# Altium schematic symbol library qiwirelesstransmitterschlib.SchLib: 30 symbols (part 1 of 2)
Pins are listed as number, name and electrical type; pins without a type are passive.

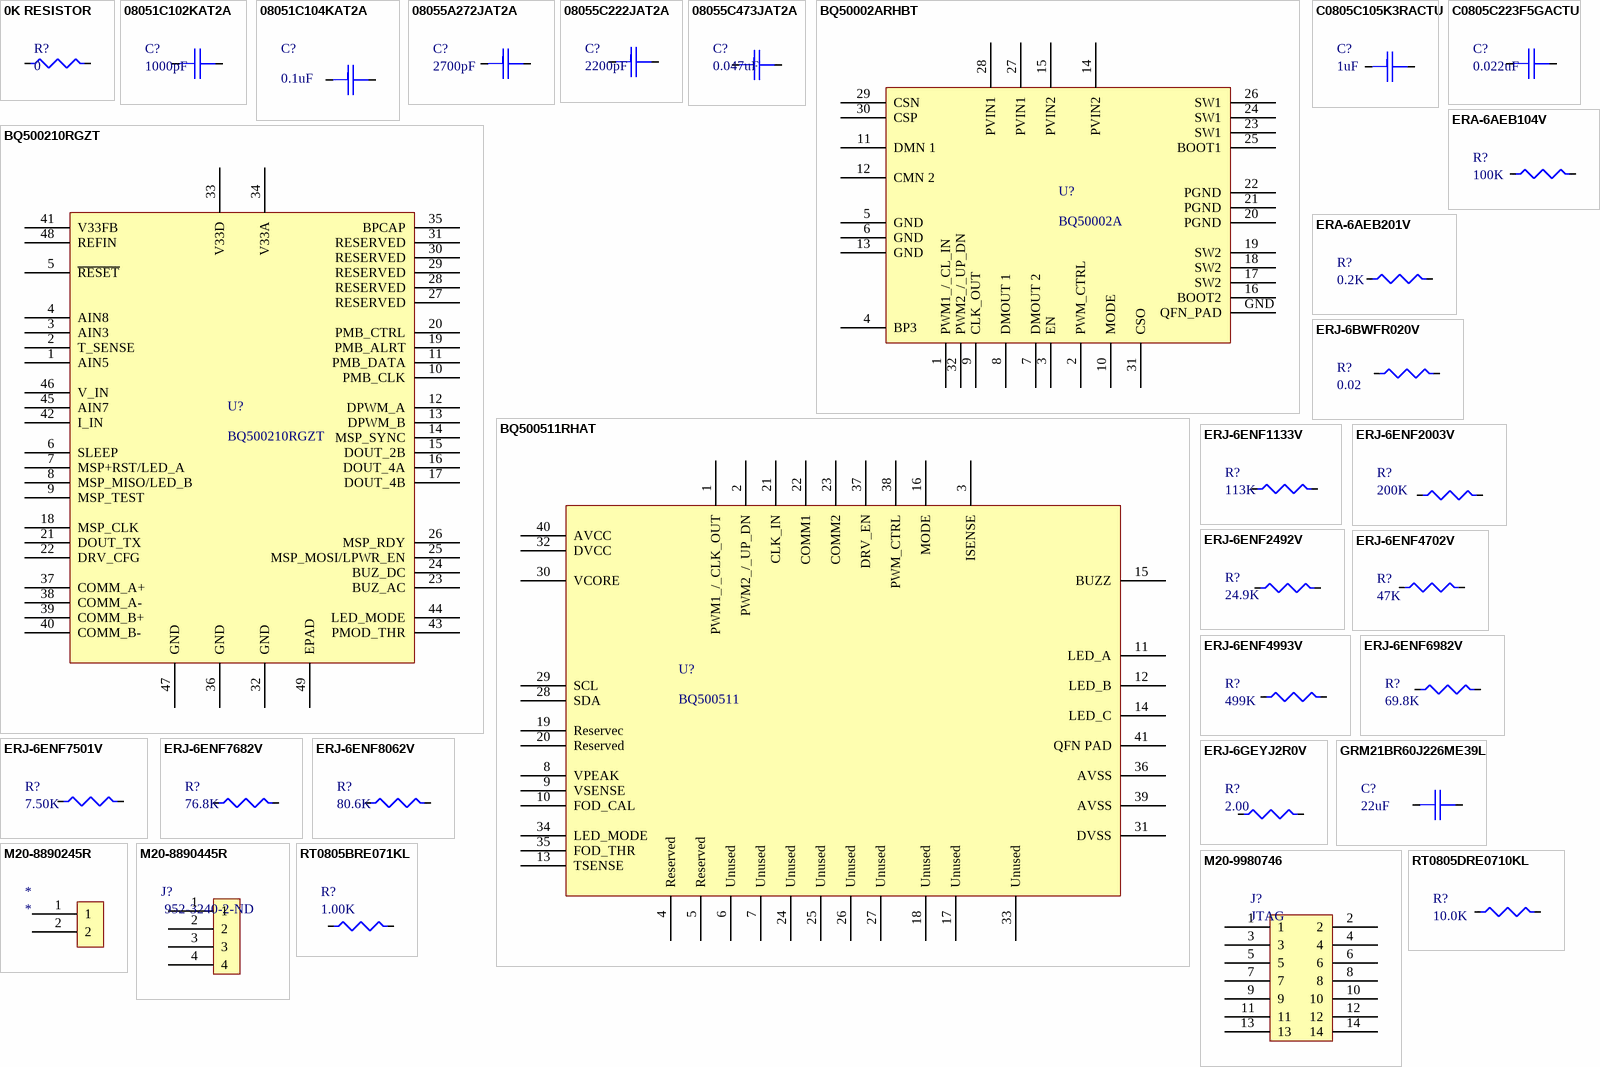
[diagram p0: symbols 0K RESISTOR to RT0805DRE0710KL]

## 0K RESISTOR
designator R?, comment 0
0K OHM resistor
footprint R0805 0.5H
pins: 84, 85

## 08051C102KAT2A
designator C?, comment 1000pF
CAP CER 1000PF 100V X7R 0805; Manufacturer: Kyocera AVX; Manufacturer Part Number: 08051C102KAT2A; Capacitance: 1nF; Tolerance: 10%; Dissipation Factor: 2.5%; Supplier 1: Mouser; RoHS: Yes; Category: Ceramic Capacitors; Stock 1: 83991; Pricing 1: 1=0.15000, 10=0.10600, 100=0.05200, 500=0.03700, 1000=0.03000, 2000=0.02800 (USD); Mount: Surface Mount; Case/Package: 0805; Number of Pins: 2; Case Code (Metric): 2012; Case Code (Imperial): 0805; Contact Plating: Tin,Matte; Min Operating Temperature: -55°C; Max Operating Temperature: 125°C; Packaging: Tape and Reel; Voltage Rating: 100V; Package Quantity: 1; Voltage Rating (DC): 100V; Dielectric: X7R; Termination: SMD/SMT; Voltage: 100V; Length: 2.01mm; Height: 0.94mm; Width: 0.049inch; Thickness: 0.037inch; Depth: 1.25mm; Radiation Hardening: No; REACH SVHC: No SVHC; Lead Free: Lead Free; ComponentLink1URL: https://datasheet.ciiva.com/11786/0900766b80ed4be2-11786533.pdf?src-supplier=RSComponents; ComponentLink1Description: https://datasheet.ciiva.com/11786/0900766b80ed4be2-11786533.pdf?src-supplier=RSComponents; ComponentLink2URL: https://datasheet.ciiva.com/22683/1679506-22683368.pdf?src-supplier=Element14; ComponentLink2Description: https://datasheet.ciiva.com/22683/1679506-22683368.pdf?src-supplier=Element14; ComponentLink3URL: https://datasheet.ciiva.com/2987/cx7r-2987930.pdf?src-supplier=Avnet; ComponentLink3Description: https://datasheet.ciiva.com/2987/cx7r-2987930.pdf?src-supplier=Avnet; ComponentLink4URL: https://datasheet.ciiva.com/7811/cx7r-7811914.pdf?src-supplier=Element14; ComponentLink4Description: https://datasheet.ciiva.com/7811/cx7r-7811914.pdf?src-supplier=Element14; ComponentLink5URL: https://datasheet.ciiva.com/150/cx7r-150587.pdf?src-supplier=Digi-Key; ComponentLink5Description: https://datasheet.ciiva.com/150/cx7r-150587.pdf?src-supplier=Digi-Key; ComponentLink6URL: https://datasheet.ciiva.com/150/cx7r-150588.pdf?src-supplier=Digi-Key; ComponentLink6Description: https://datasheet.ciiva.com/150/cx7r-150588.pdf?src-supplier=Digi-Key; ComponentLink7URL: https://datasheet.ciiva.com/22699/1679506-22699612.pdf?src-supplier=Element14; ComponentLink7Description: https://datasheet.ciiva.com/22699/1679506-22699612.pdf?src-supplier=Element14; ComponentLink8URL: https://datasheet.ciiva.com/150/cx7r-150589.pdf?src-supplier=Digi-Key; ComponentLink8Description: https://datasheet.ciiva.com/150/cx7r-150589.pdf?src-supplier=Digi-Key; ComponentLink9URL: https://datasheet.ciiva.com/5420/cx7r-218113-5420893.pdf?src-supplier=Mouser; ComponentLink9Description: https://datasheet.ciiva.com/5420/cx7r-218113-5420893.pdf?src-supplier=Mouser; Supplier Part Number 1: 581-08051C102K
footprint C0805 0.94H
pins: 1, 2

## 08051C104KAT2A
designator C?, comment 0.1uF
CAP CER 0.1UF 100V X7R 0805; Manufacturer: Kyocera AVX; Manufacturer Part Number: 08051C104KAT2A; Dielectric Material: Ceramic; Capacitance: 100nF; Tolerance: 10%; Supplier 1: Mouser; RoHS: Yes; Category: Ceramic Capacitors; Stock 1: 110261; Pricing 1: 1=0.31000, 10=0.21900, 100=0.13500, 500=0.10400, 1000=0.08900, 3000=0.07500 (USD); Mount: Surface Mount,PCB; Case/Package: 0805; Number of Pins: 2; Case Code (Metric): 2012; Case Code (Imperial): 0805; Contact Plating: Tin,Matte; Min Operating Temperature: -55°C; Max Operating Temperature: 125°C; Voltage Rating: 100V; Packaging: Tape and Reel; Package Quantity: 2000; Dielectric: X7R; Voltage Rating (DC): 100V; Voltage: 100V; Termination: SMD/SMT; Length: 2.01mm; Height: 1.4mm; Width: 0.049inch; Depth: 1.25mm; Thickness: 0.055inch; Radiation Hardening: No; REACH SVHC: No SVHC; Lead Free: Lead Free; ComponentLink1URL: https://datasheet.ciiva.com/14591/70001075-14591803.pdf?src-supplier=Allied+Electronics; ComponentLink1Description: https://datasheet.ciiva.com/14591/70001075-14591803.pdf?src-supplier=Allied+Electronics; ComponentLink2URL: https://datasheet.ciiva.com/2987/cx7r-2987937.pdf?src-supplier=Avnet; ComponentLink2Description: https://datasheet.ciiva.com/2987/cx7r-2987937.pdf?src-supplier=Avnet; ComponentLink3URL: https://datasheet.ciiva.com/152/cx7r-152598.pdf?src-supplier=Digi-Key; ComponentLink3Description: https://datasheet.ciiva.com/152/cx7r-152598.pdf?src-supplier=Digi-Key; ComponentLink4URL: https://datasheet.ciiva.com/11462/cx7r-11462918.pdf?src-supplier=Avnet; ComponentLink4Description: https://datasheet.ciiva.com/11462/cx7r-11462918.pdf?src-supplier=Avnet; ComponentLink5URL: https://datasheet.ciiva.com/152/cx7r-152599.pdf?src-supplier=Digi-Key; ComponentLink5Description: https://datasheet.ciiva.com/152/cx7r-152599.pdf?src-supplier=Digi-Key; ComponentLink6URL: https://datasheet.ciiva.com/152/cx7r-152600.pdf?src-supplier=Digi-Key; ComponentLink6Description: https://datasheet.ciiva.com/152/cx7r-152600.pdf?src-supplier=Digi-Key; ComponentLink7URL: https://datasheet.ciiva.com/5414/cx7r-5414106.pdf?src-supplier=Mouser; ComponentLink7Description: https://datasheet.ciiva.com/5414/cx7r-5414106.pdf?src-supplier=Mouser; ComponentLink8URL: https://datasheet.ciiva.com/7811/cx7r-7811919.pdf?src-supplier=Element14; ComponentLink8Description: https://datasheet.ciiva.com/7811/cx7r-7811919.pdf?src-supplier=Element14; Supplier Part Number 1: 581-08051C104KAT2A
footprint 0.1uF
pins: 1, 2

## 08055A272JAT2A
designator C?, comment 2700pF
CAP CER 2700PF 50V C0G/NP0 0805; Manufacturer: Kyocera AVX; Manufacturer Part Number: 08055A272JAT2A; Capacitance: 2.7nF; Tolerance: 5%; Dielectric: C0G; Supplier 1: Mouser; RoHS: Yes; Category: Ceramic Capacitors; Stock 1: 4651; Pricing 1: 1=0.32000, 10=0.21700, 100=0.12300, 500=0.08600, 1000=0.07600, 3000=0.06200 (USD); Mount: Surface Mount; Case/Package: 0805; Number of Pins: 2; Case Code (Imperial): 0805; Case Code (Metric): 2012; Min Operating Temperature: -55°C; Max Operating Temperature: 125°C; Voltage Rating: 50V; Packaging: Tape and Reel; Package Quantity: 1; Voltage Rating (DC): 50V; Termination: SMD/SMT; Length: 2.01mm; Height: 0.94mm; Width: 1.25mm; Thickness: 0.055inch; Depth: 1.25mm; Radiation Hardening: No; REACH SVHC: No SVHC; Lead Free: Lead Free; ComponentLink1URL: https://datasheet.ciiva.com/19476/1035660-19476312.pdf?src-supplier=Jameco; ComponentLink1Description: https://datasheet.ciiva.com/19476/1035660-19476312.pdf?src-supplier=Jameco; ComponentLink2URL: https://datasheet.ciiva.com/5419/ccog-243403-5419957.pdf?src-supplier=Mouser; ComponentLink2Description: https://datasheet.ciiva.com/5419/ccog-243403-5419957.pdf?src-supplier=Mouser; ComponentLink3URL: https://datasheet.ciiva.com/17496/ccog-17496421.pdf?src-supplier=Avnet+Europe; ComponentLink3Description: https://datasheet.ciiva.com/17496/ccog-17496421.pdf?src-supplier=Avnet+Europe; ComponentLink4URL: https://datasheet.ciiva.com/152/ccog-152790.pdf?src-supplier=Digi-Key; ComponentLink4Description: https://datasheet.ciiva.com/152/ccog-152790.pdf?src-supplier=Digi-Key; ComponentLink5URL: https://datasheet.ciiva.com/28533/1796416-28533510.pdf?src-supplier=Element14; ComponentLink5Description: https://datasheet.ciiva.com/28533/1796416-28533510.pdf?src-supplier=Element14; ComponentLink6URL: https://datasheet.ciiva.com/152/ccog-152791.pdf?src-supplier=Digi-Key; ComponentLink6Description: https://datasheet.ciiva.com/152/ccog-152791.pdf?src-supplier=Digi-Key; ComponentLink7URL: https://datasheet.ciiva.com/152/ccog-152792.pdf?src-supplier=Digi-Key; ComponentLink7Description: https://datasheet.ciiva.com/152/ccog-152792.pdf?src-supplier=Digi-Key; ComponentLink8URL: https://datasheet.ciiva.com/2987/ccog-2987993.pdf?src-supplier=Avnet; ComponentLink8Description: https://datasheet.ciiva.com/2987/ccog-2987993.pdf?src-supplier=Avnet; ComponentLink9URL: https://datasheet.ciiva.com/7812/84496-7812345.pdf?src-supplier=Element14; ComponentLink9Description: https://datasheet.ciiva.com/7812/84496-7812345.pdf?src-supplier=Element14; ComponentLink10URL: https://datasheet.ciiva.com/2987/ccog-2987994.pdf?src-supplier=Avnet; ComponentLink10Description: https://datasheet.ciiva.com/2987/ccog-2987994.pdf?src-supplier=Avnet; ComponentLink11URL: https://datasheet.ciiva.com/22676/1796416-22676987.pdf?src-supplier=Element14; ComponentLink11Description: https://datasheet.ciiva.com/22676/1796416-22676987.pdf?src-supplier=Element14; Supplier Part Number 1: 581-08055A272JAT2A
footprint C0805 1.4H
pins: 1, 2

## 08055C222JAT2A
designator C?, comment 2200pF
0805 2.2 nF 50 V ±5 % Tolerance X7R Surface Mount Multilayer Ceramic Capacitor; Manufacturer: Kyocera AVX; Manufacturer Part Number: 08055C222JAT2A; Capacitance: 2.2nF; Tolerance: 5%; Voltage Rating (DC): 50V; Supplier 1: Mouser; RoHS: Yes; Category: Ceramic Capacitors; Stock 1: 4192; Pricing 1: 1=0.19000, 10=0.13000, 100=0.06500, 500=0.04500, 1000=0.04100, 2000=0.04100 (USD); Mount: Surface Mount,Through Hole; Case/Package: 0805; Number of Pins: 2; Case Code (Metric): 2012; Case Code (Imperial): 0805; Contact Plating: Tin,Matte; Min Operating Temperature: -55°C; Max Operating Temperature: 125°C; Packaging: Tape and Reel; Dielectric: X7R; Voltage Rating: 50V; Package Quantity: 4000; Termination: SMD/SMT; Length: 2.01mm; Height: 0.94mm; Depth: 1.25mm; Width: 0.049inch; Thickness: 0.037inch; Lead Pitch: 5.08mm; Radiation Hardening: No; REACH SVHC: No SVHC; Lead Free: Lead Free; ComponentLink1URL: https://datasheet.ciiva.com/206/cx7r-206804.pdf?src-supplier=Digi-Key; ComponentLink1Description: https://datasheet.ciiva.com/206/cx7r-206804.pdf?src-supplier=Digi-Key; ComponentLink2URL: https://datasheet.ciiva.com/7812/cx7r-7812087.pdf?src-supplier=Element14; ComponentLink2Description: https://datasheet.ciiva.com/7812/cx7r-7812087.pdf?src-supplier=Element14; ComponentLink3URL: https://datasheet.ciiva.com/7812/cx7r-7812088.pdf?src-supplier=Element14; ComponentLink3Description: https://datasheet.ciiva.com/7812/cx7r-7812088.pdf?src-supplier=Element14; ComponentLink4URL: https://datasheet.ciiva.com/22707/1679506-22707000.pdf?src-supplier=Element14; ComponentLink4Description: https://datasheet.ciiva.com/22707/1679506-22707000.pdf?src-supplier=Element14; ComponentLink5URL: https://datasheet.ciiva.com/15212/getdatasheetpartid-251532-15212586.pdf?src-supplier=Verical; ComponentLink5Description: https://datasheet.ciiva.com/15212/getdatasheetpartid-251532-15212586.pdf?src-supplier=Verical; ComponentLink6URL: https://datasheet.ciiva.com/16623/skycap-sr-16623389.pdf?src-supplier=Avnet+Europe; ComponentLink6Description: https://datasheet.ciiva.com/16623/skycap-sr-16623389.pdf?src-supplier=Avnet+Europe; ComponentLink7URL: https://datasheet.ciiva.com/5413/cx7r-218113-5413007.pdf?src-supplier=Mouser; ComponentLink7Description: https://datasheet.ciiva.com/5413/cx7r-218113-5413007.pdf?src-supplier=Mouser; ComponentLink8URL: https://datasheet.ciiva.com/16387/cx7r-16387311.pdf?src-supplier=Future+Electronics; ComponentLink8Description: https://datasheet.ciiva.com/16387/cx7r-16387311.pdf?src-supplier=Future+Electronics; Supplier Part Number 1: 581-08055C222J
footprint C0805 1.52H
pins: 1, 2

## 08055C473JAT2A
designator C?, comment 0.047uF
CAP CER 0.047UF 50V X7R 0805; Manufacturer: Kyocera AVX; Manufacturer Part Number: 08055C473JAT2A; Dielectric Material: Ceramic; Capacitance: 47nF; Tolerance: 10%; Dissipation Factor: 2.5%; Supplier 1: Mouser; RoHS: Yes; Category: Ceramic Capacitors; Stock 1: 25260; Pricing 1: 1=0.32000, 10=0.20200, 100=0.12100, 500=0.09000, 1000=0.07800, 2000=0.06500 (USD); Mount: Surface Mount,PCB; Case/Package: 0805; Number of Pins: 2; Case Code (Metric): 2012; Case Code (Imperial): 0805; Contact Plating: Tin,Matte; Min Operating Temperature: -55°C; Max Operating Temperature: 125°C; Packaging: Tape and Reel; Voltage Rating (DC): 50V; Dielectric: X7R; Voltage Rating: 50V; Package Quantity: 1; Termination: SMD/SMT; Voltage: 50V; Length: 2.01mm; Height: 0.94mm; Depth: 1.25mm; Width: 0.049inch; Thickness: 0.037inch; Radiation Hardening: No; REACH SVHC: No SVHC; Lead Free: Lead Free; ComponentLink1URL: https://datasheet.ciiva.com/151/cx7r-151912.pdf?src-supplier=Digi-Key; ComponentLink1Description: https://datasheet.ciiva.com/151/cx7r-151912.pdf?src-supplier=Digi-Key; ComponentLink2URL: https://datasheet.ciiva.com/14603/70001075-14603033.pdf?src-supplier=Allied+Electronics; ComponentLink2Description: https://datasheet.ciiva.com/14603/70001075-14603033.pdf?src-supplier=Allied+Electronics; ComponentLink3URL: https://datasheet.ciiva.com/7812/84526-7812117.pdf?src-supplier=Element14; ComponentLink3Description: https://datasheet.ciiva.com/7812/84526-7812117.pdf?src-supplier=Element14; ComponentLink4URL: https://datasheet.ciiva.com/151/cx7r-151910.pdf?src-supplier=Digi-Key; ComponentLink4Description: https://datasheet.ciiva.com/151/cx7r-151910.pdf?src-supplier=Digi-Key; ComponentLink5URL: https://datasheet.ciiva.com/7812/cx7r-7812118.pdf?src-supplier=Element14; ComponentLink5Description: https://datasheet.ciiva.com/7812/cx7r-7812118.pdf?src-supplier=Element14; ComponentLink6URL: https://datasheet.ciiva.com/151/cx7r-151911.pdf?src-supplier=Digi-Key; ComponentLink6Description: https://datasheet.ciiva.com/151/cx7r-151911.pdf?src-supplier=Digi-Key; ComponentLink7URL: https://datasheet.ciiva.com/7812/84526-7812119.pdf?src-supplier=Element14; ComponentLink7Description: https://datasheet.ciiva.com/7812/84526-7812119.pdf?src-supplier=Element14; ComponentLink8URL: https://datasheet.ciiva.com/5411/cx7r-218113-5411849.pdf?src-supplier=Mouser; ComponentLink8Description: https://datasheet.ciiva.com/5411/cx7r-218113-5411849.pdf?src-supplier=Mouser; ComponentLink9URL: https://datasheet.ciiva.com/16326/cx7r-16326542.pdf?src-supplier=Future+Electronics; ComponentLink9Description: https://datasheet.ciiva.com/16326/cx7r-16326542.pdf?src-supplier=Future+Electronics; Supplier Part Number 1: 581-08055C473J
footprint C0805 0.94H
pins: 1, 2

## BQ50002ARHBT
designator U?, comment BQ50002A
TEXAS INSTRUMENTS - BQ50002ARHBT - WIRELESS POWER TRANSMITTER AFE, VQFN-32; Supplier 1: Mouser; Manufacturer: Texas Instruments; Manufacturer Part Number: BQ50002ARHBT; RoHS: No; Category: Power Management ICs; Pricing 1: 1=2.87000, 10=2.44000, 100=1.95000, 500=1.71000, 1000=1.42000, 2500=1.32000 (USD); Lead Free: Lead Free; ComponentLink1URL: http://www.ti.com/general/docs/lit/getliterature.tsp?genericPartNumber=BQ50002A&fileType=pdf&src-supplier=Farnell; ComponentLink1Description: http://www.ti.com/general/docs/lit/getliterature.tsp?genericPartNumber=BQ50002A&fileType=pdf&src-supplier=Farnell; ComponentLink2URL: http://www.ti.com/lit/ds/symlink/bq50002a.pdf?src-supplier=Digi-Key; ComponentLink2Description: http://www.ti.com/lit/ds/symlink/bq50002a.pdf?src-supplier=Digi-Key; Supplier Part Number 1: 595-BQ50002ARHBT
footprint bq50002a
pins: 1 PWM1_/_CL_IN, 2 PWM_CTRL, 3 EN, 4 BP3, 5 GND, 6 GND, 7 DMOUT 2, 8 DMOUT 1, 9 CLK_OUT, 10 MODE, 11 DMN 1, 12 CMN 2, 13 GND, 14 PVIN2, 15 PVIN2, 16 BOOT2, 17 SW2, 18 SW2, 19 SW2, 20 PGND, 21 PGND, 22 PGND, 23 SW1, 24 SW1, 25 BOOT1, 26 SW1, 27 PVIN1, 28 PVIN1, 29 CSN, 30 CSP, 31 CSO, 32 PWM2_/_UP_DN, GND QFN_PAD

## BQ500210RGZT
designator U?
IC WIRELESS PWR TX 48VQFN; Manufacturer: Texas Instruments; Operating Supply Current: 8mA; Output Current: 15mA; Min Supply Voltage: 3V; Max Supply Voltage: 3.6V; Number of Channels: 1; Max Frequency: 205kHz; Supplier 1: Mouser; Manufacturer Part Number: BQ500210RGZT; RoHS: Yes; Category: Power Management ICs; Stock 1: 114; Pricing 1: 1=9.53000, 10=8.61000, 25=7.98000, 100=7.13000, 250=6.77000, 500=6.21000 (USD); Mount: Surface Mount; Case/Package: VQFN; Number of Pins: 48; Weight: 0.004938oz; Contact Plating: Gold; Min Operating Temperature: -40°C; Max Operating Temperature: 110°C; Package Quantity: 250; Packaging: Tape and Reel; Length: 7mm; Height: 0.9mm; Width: 7.15mm; Radiation Hardening: No; REACH SVHC: No SVHC; Lead Free: Lead Free; ComponentLink1URL: https://datasheet.ciiva.com/23907/1759689-23907420.pdf?src-supplier=Newark; ComponentLink1Description: https://datasheet.ciiva.com/23907/1759689-23907420.pdf?src-supplier=Newark; ComponentLink2URL: https://datasheet.ciiva.com/7643/1653601-7643951.pdf?src-supplier=Element14; ComponentLink2Description: https://datasheet.ciiva.com/7643/1653601-7643951.pdf?src-supplier=Element14; ComponentLink3URL: https://datasheet.ciiva.com/3244/bq500210-3244928.pdf?src-supplier=Avnet; ComponentLink3Description: https://datasheet.ciiva.com/3244/bq500210-3244928.pdf?src-supplier=Avnet; ComponentLink4URL: https://datasheet.ciiva.com/1966/bq500210-1966155.pdf?src-supplier=Digi-Key; ComponentLink4Description: https://datasheet.ciiva.com/1966/bq500210-1966155.pdf?src-supplier=Digi-Key; ComponentLink5URL: https://datasheet.ciiva.com/26015/bq500210-26015467.pdf?src-supplier=Avnet+Europe; ComponentLink5Description: https://datasheet.ciiva.com/26015/bq500210-26015467.pdf?src-supplier=Avnet+Europe; ComponentLink6URL: https://datasheet.ciiva.com/1966/bq500210-1966156.pdf?src-supplier=Digi-Key; ComponentLink6Description: https://datasheet.ciiva.com/1966/bq500210-1966156.pdf?src-supplier=Digi-Key; Supplier Part Number 1: 595-BQ500210RGZT
footprint qiwirelesstransmitter - duplicate
pins: 1 AIN5, 2 T_SENSE, 3 AIN3, 4 AIN8, 5 ~{RESET}, 6 SLEEP, 7 MSP+RST/LED_A, 8 MSP_MISO/LED_B, 9 MSP_TEST, 10 PMB_CLK, 11 PMB_DATA, 12 DPWM_A, 13 DPWM_B, 14 MSP_SYNC, 15 DOUT_2B, 16 DOUT_4A, 17 DOUT_4B, 18 MSP_CLK, 19 PMB_ALRT, 20 PMB_CTRL, 21 DOUT_TX, 22 DRV_CFG, 23 BUZ_AC, 24 BUZ_DC, 25 MSP_MOSI/LPWR_EN, 26 MSP_RDY, 27 RESERVED, 28 RESERVED, 29 RESERVED, 30 RESERVED, 31 RESERVED, 32 GND, 33 V33D, 34 V33A, 35 BPCAP, 36 GND, 37 COMM_A+, 38 COMM_A-, 39 COMM_B+, 40 COMM_B-, 41 V33FB, 42 I_IN, 43 PMOD_THR, 44 LED_MODE, 45 AIN7, 46 V_IN, 47 GND, 48 REFIN, 49 EPAD

## BQ500511RHAT
designator U?, comment BQ500511
IC WIRELESS TRANSMITTER 40VQFN; Manufacturer: Texas Instruments; Manufacturer Part Number: BQ500511RHAT; Operating Supply Current: 3.45mA; Min Supply Voltage: 2V; Max Supply Voltage: 3.6V; Supplier 1: Mouser; RoHS: Yes; Category: Power Management ICs; Stock 1: 391; Pricing 1: 1=5.17000, 10=4.65000, 100=3.80000, 250=3.57000, 500=3.24000, 1000=2.73000 (USD); Mount: Surface Mount; Case/Package: VQFN; Number of Pins: 40; Contact Plating: Gold; Min Operating Temperature: -40°C; Max Operating Temperature: 85°C; Packaging: Cut Tape; Lead Free: Lead Free; REACH SVHC: No SVHC; ComponentLink1URL: http://www.ti.com/general/docs/lit/getliterature.tsp?genericPartNumber=BQ500511&amp;&amp;fileType=pdf&src-supplier=Farnell; ComponentLink1Description: http://www.ti.com/general/docs/lit/getliterature.tsp?genericPartNumber=BQ500511&amp;&amp;fileType=pdf&src-supplier=Farnell; ComponentLink2URL: http://www.ti.com/general/docs/lit/getliterature.tsp?genericPartNumber=BQ500511&&fileType=pdf&src-supplier=Avnet; ComponentLink2Description: http://www.ti.com/general/docs/lit/getliterature.tsp?genericPartNumber=BQ500511&&fileType=pdf&src-supplier=Avnet; ComponentLink3URL: http://www.ti.com/general/docs/lit/getliterature.tsp?genericPartNumber=BQ500511&&fileType=pdf&src-supplier=Element14; ComponentLink3Description: http://www.ti.com/general/docs/lit/getliterature.tsp?genericPartNumber=BQ500511&&fileType=pdf&src-supplier=Element14; ComponentLink4URL: http://www.ti.com/lit/ds/symlink/bq500511.pdf?src-supplier=Digi-Key; ComponentLink4Description: http://www.ti.com/lit/ds/symlink/bq500511.pdf?src-supplier=Digi-Key; ComponentLink5URL: http://www.ti.com/general/docs/lit/getliterature.tsp?genericPartNumber=BQ500511&&fileType=pdf&src-supplier=Farnell; ComponentLink5Description: http://www.ti.com/general/docs/lit/getliterature.tsp?genericPartNumber=BQ500511&&fileType=pdf&src-supplier=Farnell; Supplier Part Number 1: 595-BQ500511RHAT
footprint bq500511
pins: 1 PWM1_/_CLK_OUT, 2 PWM2_/_UP_DN, 3 ISENSE, 4 Reserved, 5 Reserved, 6 Unused, 7 Unused, 8 VPEAK, 9 VSENSE, 10 FOD_CAL, 11 LED_A, 12 LED_B, 13 TSENSE, 14 LED_C, 15 BUZZ, 16 MODE, 17 Unused, 18 Unused, 19 Reservec, 20 Reserved, 21 CLK_IN, 22 COMM1, 23 COMM2, 24 Unused, 25 Unused, 26 Unused, 27 Unused, 28 SDA, 29 SCL, 30 VCORE, 31 DVSS, 32 DVCC, 33 Unused, 34 LED_MODE, 35 FOD_THR, 36 AVSS, 37 DRV_EN, 38 PWM_CTRL, 39 AVSS, 40 AVCC, 41 QFN PAD

## C0805C105K3RACTU
designator C?, comment 1uF
KEMET - C0805C105K3RACTU - CAP, 1µF, 25V, 10%, X7R, 0805; Dielectric Material: Ceramic; Supplier 1: Mouser; Manufacturer: KEMET; Manufacturer Part Number: C0805C105K3RACTU; RoHS: Yes; Category: Ceramic Capacitors; Stock 1: 492103; Pricing 1: 1=0.69000, 10=0.45000, 100=0.28000, 500=0.25200, 1000=0.22900, 2500=0.19100 (USD); Mount: Surface Mount; Case/Package: 0805; Number of Pins: 2; Case Code (Imperial): 0805; Case Code (Metric): 2012; Contact Plating: Tin,Matte; Min Operating Temperature: -55°C; Max Operating Temperature: 125°C; Capacitance: 1uF; Tolerance: 10%; Packaging: Tape and Reel; Termination: SMD/SMT; Voltage Rating (DC): 25V; Dielectric: X7R; Package Quantity: 1; Voltage Rating: 25V; Voltage: 25V; Length: 2mm; Height: 1.25mm; Depth: 1.25mm; Width: 0.049inch; Thickness: 0.055inch; Radiation Hardening: No; REACH SVHC: No SVHC; ComponentLink1URL: https://datasheet.ciiva.com/6074/kem-c1002-x7r-smd-6074661.pdf?src-supplier=Farnell; ComponentLink1Description: https://datasheet.ciiva.com/6074/kem-c1002-x7r-smd-6074661.pdf?src-supplier=Farnell; ComponentLink2URL: https://datasheet.ciiva.com/28610/1918693-28610874.pdf?src-supplier=Element14; ComponentLink2Description: https://datasheet.ciiva.com/28610/1918693-28610874.pdf?src-supplier=Element14; ComponentLink3URL: https://datasheet.ciiva.com/46443/1851736-46443533.pdf?src-supplier=Element14; ComponentLink3Description: https://datasheet.ciiva.com/46443/1851736-46443533.pdf?src-supplier=Element14; Supplier Part Number 1: 80-C0805C105K3R
footprint C0805 1.4H
pins: 1, 2

## C0805C223F5GACTU
designator C?, comment 0.022uF
CAP CER 0.022UF 50V C0G/NP0 0805; Manufacturer: KEMET; Manufacturer Part Number: C0805C223F5GACTU; Dielectric Material: Ceramic; Capacitance: 22nF; Tolerance: 1%; Dielectric: C0G; Supplier 1: Mouser; RoHS: Yes; Category: Ceramic Capacitors; Stock 1: 6159; Pricing 1: 1=3.12000, 10=2.51000, 100=1.88000, 500=1.46000, 1000=1.41000, 2500=1.22000 (USD); Mount: Surface Mount; Case/Package: 0805; Weight: 0.000194oz; Case Code (Metric): 2012; Case Code (Imperial): 0805; Min Operating Temperature: -55°C; Max Operating Temperature: 125°C; Packaging: Tape and Reel; Voltage Rating (DC): 50V; Package Quantity: 1; Termination: SMD/SMT; Voltage Rating: 50V; Length: 2mm; Height: 1.1mm; Depth: 1.25mm; Width: 0.049inch; Thickness: 0.047inch; Lead Free: Lead Free; REACH SVHC: No SVHC; ComponentLink1URL: https://datasheet.ciiva.com/13266/kem-c1003-c0g-smd-356956-13266700.pdf?src-supplier=Mouser; ComponentLink1Description: https://datasheet.ciiva.com/13266/kem-c1003-c0g-smd-356956-13266700.pdf?src-supplier=Mouser; Supplier Part Number 1: 80-C0805C223F5G
footprint C0805 0.94H
pins: 1, 2

## ERA-6AEB104V
designator R?, comment 100K
RES SMD 100K OHM 0.1% 1/8W 0805; Manufacturer: Panasonic; Manufacturer Part Number: ERA-6AEB104V; Resistance: 100kR; Power Rating: 125mW; Temperature Coefficient: 25ppm/°C; Voltage Rating: 100V; Supplier 1: Mouser; RoHS: Yes; Category: Chip SMD Resistors; Stock 1: 71158; Pricing 1: 1=0.36000, 10=0.30200, 100=0.11900, 500=0.10500, 1000=0.04600, 5000=0.03800 (USD); Mount: Surface Mount; Case/Package: 0805; Number of Pins: 2; Case Code (Imperial): 0805; Case Code (Metric): 2012; Contact Plating: Tin; Min Operating Temperature: -55°C; Max Operating Temperature: 155°C; Tolerance: 0.1%; Packaging: Tape and Reel; Composition: Thin Film; Voltage Rating (DC): 100V; Termination: Solder; Package Quantity: 1; Number of Terminations: 2; Max Power Dissipation: 125mW; Military Standard: Not; Features: Automotive AEC-Q200; Length: 2mm; Height: 0.5mm; Width: 1.25mm; Depth: 1.25mm; Radiation Hardening: No; Lead Free: Lead Free; REACH SVHC: No SVHC; ComponentLink1URL: https://datasheet.ciiva.com/11811/0900766b80beefcc-11811258.pdf?src-supplier=RSComponents; ComponentLink1Description: https://datasheet.ciiva.com/11811/0900766b80beefcc-11811258.pdf?src-supplier=RSComponents; ComponentLink2URL: https://datasheet.ciiva.com/26335/453651-da-01-en-widerstand-0805-era-26335725.pdf?src-supplier=Conrad; ComponentLink2Description: https://datasheet.ciiva.com/26335/453651-da-01-en-widerstand-0805-era-26335725.pdf?src-supplier=Conrad; ComponentLink3URL: https://datasheet.ciiva.com/48425/era-eng-tds-48425749.pdf?src-supplier=Distrelec; ComponentLink3Description: https://datasheet.ciiva.com/48425/era-eng-tds-48425749.pdf?src-supplier=Distrelec; ComponentLink4URL: https://datasheet.ciiva.com/22758/485442-22758153.pdf?src-supplier=Farnell; ComponentLink4Description: https://datasheet.ciiva.com/22758/485442-22758153.pdf?src-supplier=Farnell; ComponentLink5URL: https://datasheet.ciiva.com/17208/aoa0000ce26-17208122.pdf?src-supplier=Avnet+Europe; ComponentLink5Description: https://datasheet.ciiva.com/17208/aoa0000ce26-17208122.pdf?src-supplier=Avnet+Europe; ComponentLink6URL: https://datasheet.ciiva.com/16768/70068849-16768795.pdf?src-supplier=Allied+Electronics; ComponentLink6Description: https://datasheet.ciiva.com/16768/70068849-16768795.pdf?src-supplier=Allied+Electronics; ComponentLink7URL: https://datasheet.ciiva.com/46438/485442-46438215.pdf?src-supplier=Element14; ComponentLink7Description: https://datasheet.ciiva.com/46438/485442-46438215.pdf?src-supplier=Element14; ComponentLink8URL: https://datasheet.ciiva.com/46438/485442-46438216.pdf?src-supplier=Element14; ComponentLink8Description: https://datasheet.ciiva.com/46438/485442-46438216.pdf?src-supplier=Element14; ComponentLink9URL: https://datasheet.ciiva.com/46438/485442-46438217.pdf?src-supplier=Element14; ComponentLink9Description: https://datasheet.ciiva.com/46438/485442-46438217.pdf?src-supplier=Element14; ComponentLink10URL: https://datasheet.ciiva.com/22758/485442-22758155.pdf?src-supplier=Farnell; ComponentLink10Description: https://datasheet.ciiva.com/22758/485442-22758155.pdf?src-supplier=Farnell; ComponentLink11URL: https://datasheet.ciiva.com/16763/70068849-16763132.pdf?src-supplier=Allied+Electronics; ComponentLink11Description: https://datasheet.ciiva.com/16763/70068849-16763132.pdf?src-supplier=Allied+Electronics; ComponentLink12URL: https://datasheet.ciiva.com/48529/era-eng-tds-48529996.pdf?src-supplier=Distrelec; ComponentLink12Description: https://datasheet.ciiva.com/48529/era-eng-tds-48529996.pdf?src-supplier=Distrelec; ComponentLink13URL: https://datasheet.ciiva.com/16396/aoa0000ce26-16396829.pdf?src-supplier=Future+Electronics; ComponentLink13Description: https://datasheet.ciiva.com/16396/aoa0000ce26-16396829.pdf?src-supplier=Future+Electronics; ComponentLink14URL: https://datasheet.ciiva.com/9186/aoa0000ce26-9186703.pdf?src-supplier=Avnet; ComponentLink14Description: https://datasheet.ciiva.com/9186/aoa0000ce26-9186703.pdf?src-supplier=Avnet; ComponentLink15URL: https://datasheet.ciiva.com/43457/485442-43457791.pdf?src-supplier=Farnell; ComponentLink15Description: https://datasheet.ciiva.com/43457/485442-43457791.pdf?src-supplier=Farnell; Supplier Part Number 1: 667-ERA-6AEB104V
footprint R0805 0.5H
pins: 84, 85

## ERA-6AEB201V
designator R?, comment 0.2K
RES SMD 200 OHM 0.1% 1/8W 0805; Manufacturer: Panasonic; Manufacturer Part Number: ERA-6AEB201V; Resistance: 200R; Power Rating: 125mW; Temperature Coefficient: 25ppm/°C; Voltage Rating: 100V; Supplier 1: Mouser; RoHS: Yes; Category: Chip SMD Resistors; Stock 1: 21138; Pricing 1: 1=0.26000, 10=0.26000, 100=0.10800, 500=0.09000, 1000=0.04500, 5000=0.03700 (USD); Mount: Surface Mount; Case/Package: 0805; Number of Pins: 2; Case Code (Metric): 2012; Case Code (Imperial): 0805; Contact Plating: Tin; Min Operating Temperature: -55°C; Max Operating Temperature: 155°C; Packaging: Tape and Reel; Package Quantity: 5000; Tolerance: 0.1%; Termination: SMD/SMT; Composition: Thin Film; Military Standard: Not; Number of Terminations: 2; Max Power Dissipation: 125mW; Voltage Rating (DC): 100V; Length: 2mm; Height: 0.5mm; Width: 1.25mm; Depth: 1.25mm; Radiation Hardening: No; REACH SVHC: No SVHC; Lead Free: Lead Free; ComponentLink1URL: https://datasheet.ciiva.com/29184/452790-da-01-en-widerstand-0805-era-29184068.pdf?src-supplier=Conrad; ComponentLink1Description: https://datasheet.ciiva.com/29184/452790-da-01-en-widerstand-0805-era-29184068.pdf?src-supplier=Conrad; ComponentLink2URL: https://datasheet.ciiva.com/16769/70068849-16769175.pdf?src-supplier=Allied+Electronics; ComponentLink2Description: https://datasheet.ciiva.com/16769/70068849-16769175.pdf?src-supplier=Allied+Electronics; ComponentLink3URL: https://datasheet.ciiva.com/30158/54aoa0000ce26-30158504.pdf?src-supplier=Onlinecomponents.com; ComponentLink3Description: https://datasheet.ciiva.com/30158/54aoa0000ce26-30158504.pdf?src-supplier=Onlinecomponents.com; ComponentLink4URL: https://datasheet.ciiva.com/17207/aoa0000ce26-17207007.pdf?src-supplier=Avnet+Europe; ComponentLink4Description: https://datasheet.ciiva.com/17207/aoa0000ce26-17207007.pdf?src-supplier=Avnet+Europe; ComponentLink5URL: https://datasheet.ciiva.com/43457/485442-43457863.pdf?src-supplier=Farnell; ComponentLink5Description: https://datasheet.ciiva.com/43457/485442-43457863.pdf?src-supplier=Farnell; ComponentLink6URL: https://datasheet.ciiva.com/9184/aoa0000ce26-9184632.pdf?src-supplier=Avnet; ComponentLink6Description: https://datasheet.ciiva.com/9184/aoa0000ce26-9184632.pdf?src-supplier=Avnet; ComponentLink7URL: https://datasheet.ciiva.com/48425/era-eng-tds-48425774.pdf?src-supplier=Distrelec; ComponentLink7Description: https://datasheet.ciiva.com/48425/era-eng-tds-48425774.pdf?src-supplier=Distrelec; ComponentLink8URL: https://datasheet.ciiva.com/16781/70068849-16781071.pdf?src-supplier=Allied+Electronics; ComponentLink8Description: https://datasheet.ciiva.com/16781/70068849-16781071.pdf?src-supplier=Allied+Electronics; Supplier Part Number 1: 667-ERA-6AEB201V
footprint R0805 0.5H
pins: 84, 85

## ERJ-6BWFR020V
designator R?, comment 0.02
RES 0.02 OHM 1% 1/2W 0805; Manufacturer: Panasonic; Manufacturer Part Number: ERJ-6BWFR020V; Resistance: 20mR; Power Rating: 500mW; Temperature Coefficient: 200ppm/°C; Max Power Dissipation: 250mW; Supplier 1: Mouser; RoHS: Yes; Category: Chip SMD Resistors; Stock 1: 39759; Pricing 1: 1=0.73000, 10=0.60800, 100=0.40900, 500=0.28300, 1000=0.23200, 5000=0.22600 (USD); Mount: Surface Mount; Case/Package: 0805; Number of Pins: 2; Weight: 0.000194oz; Case Code (Metric): 2012; Case Code (Imperial): 0805; Contact Plating: Tin; Min Operating Temperature: -55°C; Max Operating Temperature: 155°C; Tolerance: 1%; Packaging: Tape and Reel; Termination: SMD/SMT; Package Quantity: 5000; Composition: Thick Film; Number of Terminations: 2; Military Standard: Not; Length: 2mm; Height: 0.03inch; Width: 0.049inch; Depth: 1.25mm; Radiation Hardening: No; Lead Free: Lead Free; REACH SVHC: No SVHC; ComponentLink1URL: https://datasheet.ciiva.com/11810/0900766b8126441d-11810583.pdf?src-supplier=RSComponents; ComponentLink1Description: https://datasheet.ciiva.com/11810/0900766b8126441d-11810583.pdf?src-supplier=RSComponents; ComponentLink2URL: https://datasheet.ciiva.com/46389/1662788-46389190.pdf?src-supplier=Element14; ComponentLink2Description: https://datasheet.ciiva.com/46389/1662788-46389190.pdf?src-supplier=Element14; ComponentLink3URL: https://datasheet.ciiva.com/6028/1662788-6028472.pdf?src-supplier=Farnell; ComponentLink3Description: https://datasheet.ciiva.com/6028/1662788-6028472.pdf?src-supplier=Farnell; ComponentLink4URL: https://datasheet.ciiva.com/16780/70068852-16780874.pdf?src-supplier=Allied+Electronics; ComponentLink4Description: https://datasheet.ciiva.com/16780/70068852-16780874.pdf?src-supplier=Allied+Electronics; ComponentLink5URL: https://datasheet.ciiva.com/30253/6aoa0000ce3-30253434.pdf?src-supplier=Onlinecomponents.com; ComponentLink5Description: https://datasheet.ciiva.com/30253/6aoa0000ce3-30253434.pdf?src-supplier=Onlinecomponents.com; ComponentLink6URL: https://datasheet.ciiva.com/46377/1662788-46377434.pdf?src-supplier=Element14; ComponentLink6Description: https://datasheet.ciiva.com/46377/1662788-46377434.pdf?src-supplier=Element14; ComponentLink7URL: https://datasheet.ciiva.com/16776/70068852-16776924.pdf?src-supplier=Allied+Electronics; ComponentLink7Description: https://datasheet.ciiva.com/16776/70068852-16776924.pdf?src-supplier=Allied+Electronics; ComponentLink8URL: https://datasheet.ciiva.com/17211/aoa0000ce3-17211068.pdf?src-supplier=Avnet+Europe; ComponentLink8Description: https://datasheet.ciiva.com/17211/aoa0000ce3-17211068.pdf?src-supplier=Avnet+Europe; ComponentLink9URL: https://datasheet.ciiva.com/24124/aoa0000ce3-72189-24124188.pdf?src-supplier=Mouser; ComponentLink9Description: https://datasheet.ciiva.com/24124/aoa0000ce3-72189-24124188.pdf?src-supplier=Mouser; ComponentLink10URL: https://datasheet.ciiva.com/16759/70068852-16759230.pdf?src-supplier=Allied+Electronics; ComponentLink10Description: https://datasheet.ciiva.com/16759/70068852-16759230.pdf?src-supplier=Allied+Electronics; ComponentLink11URL: https://datasheet.ciiva.com/28695/39793-28695646.pdf?src-supplier=Element14; ComponentLink11Description: https://datasheet.ciiva.com/28695/39793-28695646.pdf?src-supplier=Element14; Supplier Part Number 1: 667-ERJ-6BWFR020V
footprint R0805 0.762H
pins: 84, 85

## ERJ-6ENF1133V
designator R?, comment 113K
RES SMD 113K OHM 1% 1/8W 0805; Manufacturer: Panasonic; Manufacturer Part Number: ERJ-6ENF1133V; Resistance: 113kR; Temperature Coefficient: 100ppm/°C; Max Power Dissipation: 125mW; Voltage Rating: 150V; Supplier 1: Mouser; RoHS: Yes; Category: Chip SMD Resistors; Stock 1: 46460; Pricing 1: 1=0.10000, 10=0.08100, 100=0.03100, 1000=0.01100, 5000=0.00900, 10000=0.00800 (USD); Mount: Surface Mount; Case/Package: 0805; Case Code (Metric): 2012; Case Code (Imperial): 0805; Contact Plating: Tin; Min Operating Temperature: -55°C; Max Operating Temperature: 155°C; Tolerance: 1%; Packaging: Tape and Reel; Composition: Thick Film; Number of Terminations: 2; Package Quantity: 1; Power Rating: 125mW; Voltage Rating (DC): 150V; Features: Automotive AEC-Q200; Military Standard: Not; Length: 2mm; Height: 0.028inch; Width: 0.049inch; Depth: 1.25mm; Lead Free: Lead Free; REACH SVHC: No SVHC; ComponentLink1URL: https://datasheet.ciiva.com/9186/aoa0000ce2-9186421.pdf?src-supplier=Avnet; ComponentLink1Description: https://datasheet.ciiva.com/9186/aoa0000ce2-9186421.pdf?src-supplier=Avnet; ComponentLink2URL: https://datasheet.ciiva.com/24026/aoa0000ce2-24026759.pdf?src-supplier=Mouser; ComponentLink2Description: https://datasheet.ciiva.com/24026/aoa0000ce2-24026759.pdf?src-supplier=Mouser; ComponentLink3URL: https://datasheet.ciiva.com/22673/1678782-22673559.pdf?src-supplier=Element14; ComponentLink3Description: https://datasheet.ciiva.com/22673/1678782-22673559.pdf?src-supplier=Element14; ComponentLink4URL: https://datasheet.ciiva.com/22739/1678782-22739674.pdf?src-supplier=Element14; ComponentLink4Description: https://datasheet.ciiva.com/22739/1678782-22739674.pdf?src-supplier=Element14; ComponentLink5URL: https://datasheet.ciiva.com/30206/aoa0000ce2-30206187.pdf?src-supplier=Onlinecomponents.com; ComponentLink5Description: https://datasheet.ciiva.com/30206/aoa0000ce2-30206187.pdf?src-supplier=Onlinecomponents.com; ComponentLink6URL: https://datasheet.ciiva.com/46381/1678782-46381533.pdf?src-supplier=Element14; ComponentLink6Description: https://datasheet.ciiva.com/46381/1678782-46381533.pdf?src-supplier=Element14; ComponentLink7URL: https://datasheet.ciiva.com/46381/1678782-46381534.pdf?src-supplier=Element14; ComponentLink7Description: https://datasheet.ciiva.com/46381/1678782-46381534.pdf?src-supplier=Element14; Supplier Part Number 1: 667-ERJ-6ENF1133V
footprint R0805 0.712H
pins: 84, 85

## ERJ-6ENF2003V
designator R?, comment 200K
RES SMD 200K OHM 1% 1/8W 0805; Manufacturer: Panasonic; Manufacturer Part Number: ERJ-6ENF2003V; Resistance: 200kR; Power Rating: 125mW; Temperature Coefficient: 100ppm/°C; Voltage Rating: 150V; Supplier 1: Mouser; RoHS: Yes; Category: Chip SMD Resistors; Stock 1: 150361; Pricing 1: 1=0.10000, 10=0.08100, 100=0.03100, 1000=0.01100, 5000=0.00900, 10000=0.00800 (USD); Mount: Surface Mount; Case/Package: 0805; Case Code (Imperial): 0805; Case Code (Metric): 2012; Contact Plating: Tin; Min Operating Temperature: -55°C; Max Operating Temperature: 155°C; Tolerance: 1%; Packaging: Tape and Reel; Composition: Thick Film; Termination: SMD/SMT; Package Quantity: 1; Voltage Rating (DC): 150V; Number of Terminations: 2; Max Power Dissipation: 125mW; Military Standard: Not; Features: Automotive AEC-Q200; Length: 2mm; Height: 0.6mm; Width: 1.2mm; Depth: 1.25mm; Radiation Hardening: No; Lead Free: Lead Free; REACH SVHC: No SVHC; ComponentLink1URL: https://datasheet.ciiva.com/3883/3984280s8821682n1386-3883650.pdf?src-supplier=Arrow; ComponentLink1Description: https://datasheet.ciiva.com/3883/3984280s8821682n1386-3883650.pdf?src-supplier=Arrow; ComponentLink2URL: https://datasheet.ciiva.com/11821/0900766b80f80784-11821569.pdf?src-supplier=RSComponents; ComponentLink2Description: https://datasheet.ciiva.com/11821/0900766b80f80784-11821569.pdf?src-supplier=RSComponents; ComponentLink3URL: https://datasheet.ciiva.com/28675/1678782-28675835.pdf?src-supplier=Element14; ComponentLink3Description: https://datasheet.ciiva.com/28675/1678782-28675835.pdf?src-supplier=Element14; ComponentLink4URL: https://datasheet.ciiva.com/16427/aoa0000ce2-16427100.pdf?src-supplier=Future+Electronics; ComponentLink4Description: https://datasheet.ciiva.com/16427/aoa0000ce2-16427100.pdf?src-supplier=Future+Electronics; ComponentLink5URL: https://datasheet.ciiva.com/24070/aoa0000ce2-24070837.pdf?src-supplier=Mouser; ComponentLink5Description: https://datasheet.ciiva.com/24070/aoa0000ce2-24070837.pdf?src-supplier=Mouser; ComponentLink6URL: https://datasheet.ciiva.com/30251/aoa0000ce2-30251689.pdf?src-supplier=Onlinecomponents.com; ComponentLink6Description: https://datasheet.ciiva.com/30251/aoa0000ce2-30251689.pdf?src-supplier=Onlinecomponents.com; ComponentLink7URL: https://datasheet.ciiva.com/5868/426256-5868186.pdf?src-supplier=Farnell; ComponentLink7Description: https://datasheet.ciiva.com/5868/426256-5868186.pdf?src-supplier=Farnell; ComponentLink8URL: https://datasheet.ciiva.com/28577/1678782-28577790.pdf?src-supplier=Element14; ComponentLink8Description: https://datasheet.ciiva.com/28577/1678782-28577790.pdf?src-supplier=Element14; ComponentLink9URL: https://datasheet.ciiva.com/46374/426256-46374223.pdf?src-supplier=Element14; ComponentLink9Description: https://datasheet.ciiva.com/46374/426256-46374223.pdf?src-supplier=Element14; Supplier Part Number 1: 667-ERJ-6ENF2003V
footprint R0805 0.61H
pins: 84, 85

## ERJ-6ENF2492V
designator R?, comment 24.9K
PANASONIC - ERJ6ENF2492V - RES 24K9 1% 0.125W 0805 PELÍC GRUESA; Manufacturer Part Number: ERJ-6ENF2492V; Resistance: 24.9kR; Temperature Coefficient: 100ppm/°C; Power Rating: 125mW; Voltage Rating: 150V; Supplier 1: Mouser; Manufacturer: Panasonic; RoHS: Yes; Category: Chip SMD Resistors; Stock 1: 84944; Pricing 1: 1=0.10000, 10=0.08100, 100=0.03100, 1000=0.01100, 5000=0.00900, 10000=0.00800 (USD); Mount: Surface Mount; Case/Package: 0805; Weight: 0.000194oz; Case Code (Metric): 2012; Case Code (Imperial): 0805; Contact Plating: Tin; Min Operating Temperature: -55°C; Max Operating Temperature: 155°C; Tolerance: 1%; Packaging: Tape and Reel; Composition: Thick Film; Number of Terminations: 2; Package Quantity: 1; Max Power Dissipation: 125mW; Voltage Rating (DC): 150V; Features: Automotive AEC-Q200; Termination: SMD/SMT; Military Standard: Not; Length: 2mm; Height: 0.6mm; Width: 0.049inch; Depth: 1.25mm; Radiation Hardening: No; Lead Free: Lead Free; REACH SVHC: Unknown; ComponentLink1URL: https://datasheet.ciiva.com/11821/0900766b80f80784-11821590.pdf?src-supplier=RSComponents; ComponentLink1Description: https://datasheet.ciiva.com/11821/0900766b80f80784-11821590.pdf?src-supplier=RSComponents; ComponentLink2URL: https://datasheet.ciiva.com/16437/aoa0000ce2-16437798.pdf?src-supplier=Future+Electronics; ComponentLink2Description: https://datasheet.ciiva.com/16437/aoa0000ce2-16437798.pdf?src-supplier=Future+Electronics; ComponentLink3URL: https://datasheet.ciiva.com/43460/426256-43460057.pdf?src-supplier=Farnell; ComponentLink3Description: https://datasheet.ciiva.com/43460/426256-43460057.pdf?src-supplier=Farnell; ComponentLink4URL: https://datasheet.ciiva.com/46377/426256-46377961.pdf?src-supplier=Element14; ComponentLink4Description: https://datasheet.ciiva.com/46377/426256-46377961.pdf?src-supplier=Element14; ComponentLink5URL: https://datasheet.ciiva.com/28536/1678782-28536286.pdf?src-supplier=Element14; ComponentLink5Description: https://datasheet.ciiva.com/28536/1678782-28536286.pdf?src-supplier=Element14; ComponentLink6URL: https://datasheet.ciiva.com/5969/426256-5969439.pdf?src-supplier=Farnell; ComponentLink6Description: https://datasheet.ciiva.com/5969/426256-5969439.pdf?src-supplier=Farnell; ComponentLink7URL: https://datasheet.ciiva.com/24158/aoa0000ce2-24158805.pdf?src-supplier=Mouser; ComponentLink7Description: https://datasheet.ciiva.com/24158/aoa0000ce2-24158805.pdf?src-supplier=Mouser; ComponentLink8URL: https://datasheet.ciiva.com/28695/1678782-28695849.pdf?src-supplier=Element14; ComponentLink8Description: https://datasheet.ciiva.com/28695/1678782-28695849.pdf?src-supplier=Element14; ComponentLink9URL: https://datasheet.ciiva.com/16779/70260748-16779706.pdf?src-supplier=Allied+Electronics; ComponentLink9Description: https://datasheet.ciiva.com/16779/70260748-16779706.pdf?src-supplier=Allied+Electronics; ComponentLink10URL: https://datasheet.ciiva.com/46389/426256-46389707.pdf?src-supplier=Element14; ComponentLink10Description: https://datasheet.ciiva.com/46389/426256-46389707.pdf?src-supplier=Element14; ComponentLink11URL: https://datasheet.ciiva.com/17210/aoa0000ce2-17210717.pdf?src-supplier=Avnet+Europe; ComponentLink11Description: https://datasheet.ciiva.com/17210/aoa0000ce2-17210717.pdf?src-supplier=Avnet+Europe; Supplier Part Number 1: 667-ERJ-6ENF2492V
footprint R0805 0.61H
pins: 84, 85

## ERJ-6ENF4702V
designator R?, comment 47K
RES SMD 47K OHM 1% 1/8W 0805; Manufacturer: Panasonic; Manufacturer Part Number: ERJ-6ENF4702V; Resistance: 47kR; Power Rating: 125mW; Voltage Rating: 150V; Temperature Coefficient: 100ppm/°C; Supplier 1: Mouser; RoHS: Yes; Category: Chip SMD Resistors; Stock 1: 58392; Pricing 1: 1=0.10000, 10=0.08100, 100=0.03100, 1000=0.01100, 5000=0.00900, 10000=0.00800 (USD); Mount: Surface Mount; Case/Package: 0805; Number of Pins: 2; Case Code (Metric): 2012; Case Code (Imperial): 0805; Contact Plating: Tin; Min Operating Temperature: -55°C; Max Operating Temperature: 155°C; Tolerance: 1%; Packaging: Tape and Reel; Termination: SMD/SMT; Composition: Thick Film; Voltage Rating (DC): 150V; Package Quantity: 1; Military Standard: Not; Max Power Dissipation: 125mW; Number of Terminations: 2; Features: Automotive AEC-Q200; Length: 2mm; Height: 0.6mm; Width: 0.049inch; Depth: 1.25mm; Radiation Hardening: No; Lead Free: Lead Free; REACH SVHC: No SVHC; ComponentLink1URL: https://datasheet.ciiva.com/3883/3984280s8821682n1386-3883650.pdf?src-supplier=Arrow; ComponentLink1Description: https://datasheet.ciiva.com/3883/3984280s8821682n1386-3883650.pdf?src-supplier=Arrow; ComponentLink2URL: https://datasheet.ciiva.com/11821/0900766b80f80784-11821639.pdf?src-supplier=RSComponents; ComponentLink2Description: https://datasheet.ciiva.com/11821/0900766b80f80784-11821639.pdf?src-supplier=RSComponents; ComponentLink3URL: https://datasheet.ciiva.com/7802/426256-7802693.pdf?src-supplier=Element14; ComponentLink3Description: https://datasheet.ciiva.com/7802/426256-7802693.pdf?src-supplier=Element14; ComponentLink4URL: https://datasheet.ciiva.com/17209/aoa0000ce2-17209704.pdf?src-supplier=Avnet+Europe; ComponentLink4Description: https://datasheet.ciiva.com/17209/aoa0000ce2-17209704.pdf?src-supplier=Avnet+Europe; ComponentLink5URL: https://datasheet.ciiva.com/16765/70260748-16765017.pdf?src-supplier=Allied+Electronics; ComponentLink5Description: https://datasheet.ciiva.com/16765/70260748-16765017.pdf?src-supplier=Allied+Electronics; ComponentLink6URL: https://datasheet.ciiva.com/16511/aoa0000ce2-16511980.pdf?src-supplier=Avnet+Asia; ComponentLink6Description: https://datasheet.ciiva.com/16511/aoa0000ce2-16511980.pdf?src-supplier=Avnet+Asia; ComponentLink7URL: https://datasheet.ciiva.com/28587/1678782-28587221.pdf?src-supplier=Element14; ComponentLink7Description: https://datasheet.ciiva.com/28587/1678782-28587221.pdf?src-supplier=Element14; ComponentLink8URL: https://datasheet.ciiva.com/9189/aoa0000ce2-9189448.pdf?src-supplier=Avnet; ComponentLink8Description: https://datasheet.ciiva.com/9189/aoa0000ce2-9189448.pdf?src-supplier=Avnet; ComponentLink9URL: https://datasheet.ciiva.com/30059/aoa0000ce2-30059497.pdf?src-supplier=Onlinecomponents.com; ComponentLink9Description: https://datasheet.ciiva.com/30059/aoa0000ce2-30059497.pdf?src-supplier=Onlinecomponents.com; Supplier Part Number 1: 667-ERJ-6ENF4702V
footprint R0805 0.61H
pins: 84, 85

## ERJ-6ENF4993V
designator R?, comment 499K
Res Thick Film 0805 499K Ohm 1% 1/8W 100ppm/C Molded SMD SMD Punched Carrier T/R; Manufacturer: Panasonic; Manufacturer Part Number: ERJ-6ENF4993V; Resistance: 499kR; Temperature Coefficient: 100ppm/°C; Power Rating: 125mW; Voltage Rating: 150V; Supplier 1: Mouser; RoHS: Yes; Category: Chip SMD Resistors; Stock 1: 112969; Pricing 1: 1=0.10000, 10=0.08100, 100=0.03100, 1000=0.01100, 5000=0.00900, 10000=0.00800 (USD); Mount: Surface Mount; Case/Package: 0805; Case Code (Metric): 2012; Case Code (Imperial): 0805; Contact Plating: Tin; Min Operating Temperature: -55°C; Max Operating Temperature: 155°C; Packaging: Tape and Reel; Tolerance: 1%; Composition: Thick Film; Number of Terminations: 2; Package Quantity: 1; Termination: SMD/SMT; Max Power Dissipation: 125mW; Voltage Rating (DC): 150V; Features: Automotive AEC-Q200; Military Standard: Not; Length: 2mm; Height: 0.028inch; Width: 0.049inch; Depth: 1.25mm; Radiation Hardening: No; Lead Free: Lead Free; REACH SVHC: Unknown; ComponentLink1URL: https://datasheet.ciiva.com/16781/70260748-16781031.pdf?src-supplier=Allied+Electronics; ComponentLink1Description: https://datasheet.ciiva.com/16781/70260748-16781031.pdf?src-supplier=Allied+Electronics; ComponentLink2URL: https://datasheet.ciiva.com/29927/aoa0000ce2-29927447.pdf?src-supplier=Avnet; ComponentLink2Description: https://datasheet.ciiva.com/29927/aoa0000ce2-29927447.pdf?src-supplier=Avnet; ComponentLink3URL: https://datasheet.ciiva.com/28611/1678782-28611016.pdf?src-supplier=Element14; ComponentLink3Description: https://datasheet.ciiva.com/28611/1678782-28611016.pdf?src-supplier=Element14; ComponentLink4URL: https://datasheet.ciiva.com/43460/426256-43460072.pdf?src-supplier=Farnell; ComponentLink4Description: https://datasheet.ciiva.com/43460/426256-43460072.pdf?src-supplier=Farnell; ComponentLink5URL: https://datasheet.ciiva.com/46377/426256-46377785.pdf?src-supplier=Element14; ComponentLink5Description: https://datasheet.ciiva.com/46377/426256-46377785.pdf?src-supplier=Element14; ComponentLink6URL: https://datasheet.ciiva.com/24070/aoa0000ce2-24070620.pdf?src-supplier=Mouser; ComponentLink6Description: https://datasheet.ciiva.com/24070/aoa0000ce2-24070620.pdf?src-supplier=Mouser; ComponentLink7URL: https://datasheet.ciiva.com/28672/1678782-28672382.pdf?src-supplier=Element14; ComponentLink7Description: https://datasheet.ciiva.com/28672/1678782-28672382.pdf?src-supplier=Element14; ComponentLink8URL: https://datasheet.ciiva.com/9181/aoa0000ce2-9181519.pdf?src-supplier=Avnet; ComponentLink8Description: https://datasheet.ciiva.com/9181/aoa0000ce2-9181519.pdf?src-supplier=Avnet; Supplier Part Number 1: 667-ERJ-6ENF4993V
footprint R0805 0.712H
pins: 84, 85